# Altium schematic symbol library WR-MPC4.SchLib: 79 symbols (part 1 of 2)
Pins are listed as number, name and electrical type; pins without a type are passive.

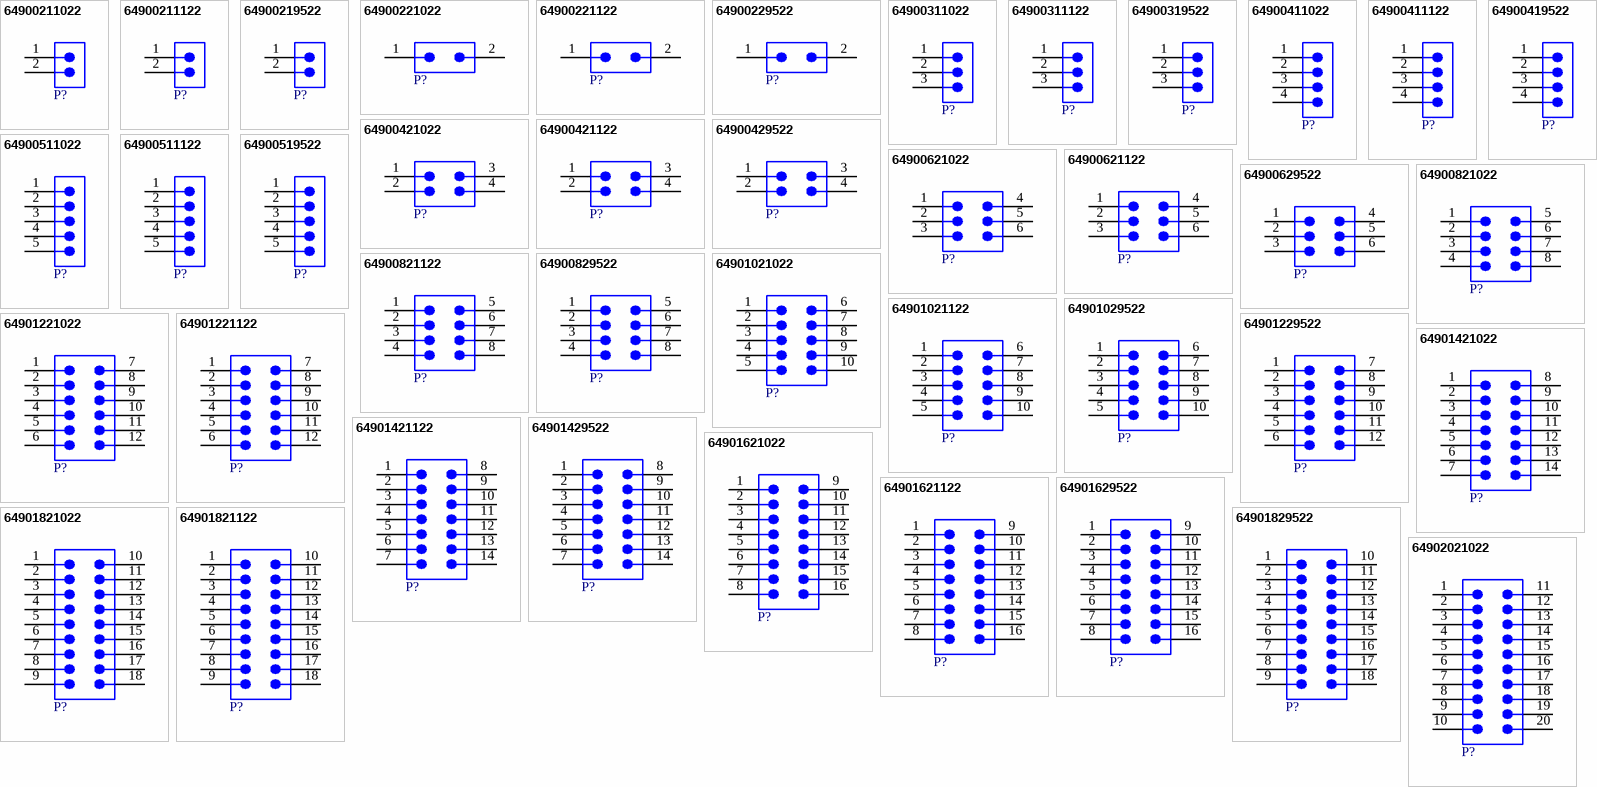
[diagram p0: symbols 64900211022 to 64902021022]

## 64900211022
designator P?  (value not drawn)
WR-MPC4 THT Male Right Angled Header with Mounting Flanges for Screw-in Retention, pitch 4.2mm, 2p; Manufacturer: Wurth Elektronik; Contact Resistance: 10mΩ; Insulation Resistance: 1000MΩ; Rated Current: 9A; Working Voltage: 600VAC; ComponentLink1Description: Website Link; ComponentLink1URL: https://www.we-online.com/redexpert/article/64900211022?ad; ComponentLink2Description: Datasheet Link; ComponentLink2URL: https://www.we-online.com/redexpert/spec/64900211022?ad; Manufacturer Part Number: 64900211022; Category: Wire-to-Board Connectors; Match Code: WR-MPC4; Mount: Through Hole; Operating Temperature Max: 105°C; Operating Temperature Min: -40°C; Packaging: Tray; Gender: Male; Number of Pins: 2; Number of Rows: 1; Orientation: Right Angled; Pitch: 4.2mm
footprint 64900211022
pins: 1, 2

## 64900211122
designator P?  (value not drawn)
WR-MPC4 THT Male Vertical Header, pitch 4.2mm, 2p; Manufacturer: Wurth Elektronik; Contact Resistance: 10mΩ; Insulation Resistance: 1000MΩ; Rated Current: 9A; Working Voltage: 600VAC; ComponentLink1Description: Website Link; ComponentLink1URL: https://www.we-online.com/redexpert/article/64900211122?ad; ComponentLink2Description: Datasheet Link; ComponentLink2URL: https://www.we-online.com/redexpert/spec/64900211122?ad; Manufacturer Part Number: 64900211122; Category: Wire-to-Board Connectors; Match Code: WR-MPC4; Mount: Through Hole; Operating Temperature Max: 105°C; Operating Temperature Min: -40°C; Packaging: Tray; Gender: Male; Number of Pins: 2; Number of Rows: 1; Orientation: Vertical; Pitch: 4.2mm
footprint 64900211122
pins: 1, 2

## 64900219522
designator P?  (value not drawn)
WR-MPC4 THT Male Right Angled Header, pitch 4.2mm, 2p; Manufacturer: Wurth Elektronik; Contact Resistance: 10mΩ; Insulation Resistance: 1000MΩ; Rated Current: 9A; Working Voltage: 600VAC; ComponentLink1Description: Website Link; ComponentLink1URL: https://www.we-online.com/redexpert/article/64900219522?ad; ComponentLink2Description: Datasheet Link; ComponentLink2URL: https://www.we-online.com/redexpert/spec/64900219522?ad; Manufacturer Part Number: 64900219522; Category: Wire-to-Board Connectors; Match Code: WR-MPC4; Mount: Through Hole; Operating Temperature Max: 105°C; Operating Temperature Min: -40°C; Packaging: Tray; Gender: Male; Number of Pins: 2; Number of Rows: 1; Orientation: Right Angled; Pitch: 4.2mm
footprint 64900219522
pins: 1, 2

## 64900221022
designator P?  (value not drawn)
WR-MPC4 THT Male Right Angled Header with Mounting Flanges for Screw-in Retention, pitch 4.2mm, 2p; Manufacturer: Wurth Elektronik; Contact Resistance: 10mΩ; Insulation Resistance: 1000MΩ; Rated Current: 9A; Working Voltage: 600VAC; ComponentLink1Description: Website Link; ComponentLink1URL: https://www.we-online.com/redexpert/article/64900221022?ad; ComponentLink2Description: Datasheet Link; ComponentLink2URL: https://www.we-online.com/redexpert/spec/64900221022?ad; Manufacturer Part Number: 64900221022; Category: Wire-to-Board Connectors; Match Code: WR-MPC4; Mount: Through Hole; Operating Temperature Max: 105°C; Operating Temperature Min: -40°C; Packaging: Tray; Gender: Male; Number of Pins: 2; Number of Rows: 2; Orientation: Right Angled; Pitch: 4.2mm
footprint 64900221022
pins: 1, 2

## 64900221122
designator P?  (value not drawn)
WR-MPC4 THT Male Vertical Header, pitch 4.2mm, 2p; Manufacturer: Wurth Elektronik; Contact Resistance: 10mΩ; Insulation Resistance: 1000MΩ; Rated Current: 9A; Working Voltage: 600VAC; ComponentLink1Description: Website Link; ComponentLink1URL: https://www.we-online.com/redexpert/article/64900221122?ad; ComponentLink2Description: Datasheet Link; ComponentLink2URL: https://www.we-online.com/redexpert/spec/64900221122?ad; Manufacturer Part Number: 64900221122; Category: Wire-to-Board Connectors; Match Code: WR-MPC4; Mount: Through Hole; Operating Temperature Max: 105°C; Operating Temperature Min: -40°C; Packaging: Tray; Gender: Male; Number of Pins: 2; Number of Rows: 2; Orientation: Vertical; Pitch: 4.2mm
footprint 64900221122
pins: 1, 2

## 64900229522
designator P?  (value not drawn)
WR-MPC4 THT Male Right Angled Header, pitch 4.2mm, 2p; Manufacturer: Wurth Elektronik; Contact Resistance: 10mΩ; Insulation Resistance: 1000MΩ; Rated Current: 9A; Working Voltage: 600VAC; ComponentLink1Description: Website Link; ComponentLink1URL: https://www.we-online.com/redexpert/article/64900229522?ad; ComponentLink2Description: Datasheet Link; ComponentLink2URL: https://www.we-online.com/redexpert/spec/64900229522?ad; Manufacturer Part Number: 64900229522; Category: Wire-to-Board Connectors; Match Code: WR-MPC4; Mount: Through Hole; Operating Temperature Max: 105°C; Operating Temperature Min: -40°C; Packaging: Tray; Gender: Male; Number of Pins: 2; Number of Rows: 2; Orientation: Right Angled; Pitch: 4.2mm
footprint 64900229522
pins: 1, 2

## 64900311022
designator P?  (value not drawn)
WR-MPC4 THT Male Right Angled Header with Mounting Flanges for Screw-in Retention, pitch 4.2mm, 3p; Manufacturer: Wurth Elektronik; Contact Resistance: 10mΩ; Insulation Resistance: 1000MΩ; Rated Current: 9A; Working Voltage: 600VAC; ComponentLink1Description: Website Link; ComponentLink1URL: https://www.we-online.com/redexpert/article/64900311022?ad; ComponentLink2Description: Datasheet Link; ComponentLink2URL: https://www.we-online.com/redexpert/spec/64900311022?ad; Manufacturer Part Number: 64900311022; Category: Wire-to-Board Connectors; Match Code: WR-MPC4; Mount: Through Hole; Operating Temperature Max: 105°C; Operating Temperature Min: -40°C; Packaging: Tray; Gender: Male; Number of Pins: 3; Number of Rows: 1; Orientation: Right Angled; Pitch: 4.2mm
footprint 64900311022
pins: 1, 2, 3

## 64900311122
designator P?  (value not drawn)
WR-MPC4 THT Male Vertical Header, pitch 4.2mm, 3p; Manufacturer: Wurth Elektronik; Contact Resistance: 10mΩ; Insulation Resistance: 1000MΩ; Rated Current: 9A; Working Voltage: 600VAC; ComponentLink1Description: Website Link; ComponentLink1URL: https://www.we-online.com/redexpert/article/64900311122?ad; ComponentLink2Description: Datasheet Link; ComponentLink2URL: https://www.we-online.com/redexpert/spec/64900311122?ad; Manufacturer Part Number: 64900311122; Category: Wire-to-Board Connectors; Match Code: WR-MPC4; Mount: Through Hole; Operating Temperature Max: 105°C; Operating Temperature Min: -40°C; Packaging: Tray; Gender: Male; Number of Pins: 3; Number of Rows: 1; Orientation: Vertical; Pitch: 4.2mm
footprint 64900311122
pins: 1, 2, 3

## 64900319522
designator P?  (value not drawn)
WR-MPC4 THT Male Right Angled Header, pitch 4.2mm, 3p; Manufacturer: Wurth Elektronik; Contact Resistance: 10mΩ; Insulation Resistance: 1000MΩ; Rated Current: 9A; Working Voltage: 600VAC; ComponentLink1Description: Website Link; ComponentLink1URL: https://www.we-online.com/redexpert/article/64900319522?ad; ComponentLink2Description: Datasheet Link; ComponentLink2URL: https://www.we-online.com/redexpert/spec/64900319522?ad; Manufacturer Part Number: 64900319522; Category: Wire-to-Board Connectors; Match Code: WR-MPC4; Mount: Through Hole; Operating Temperature Max: 105°C; Operating Temperature Min: -40°C; Packaging: Tray; Gender: Male; Number of Pins: 3; Number of Rows: 1; Orientation: Right Angled; Pitch: 4.2mm
footprint 64900319522
pins: 1, 2, 3

## 64900411022
designator P?  (value not drawn)
WR-MPC4 THT Male Right Angled Header with Mounting Flanges for Screw-in Retention, pitch 4.2mm, 4p; Manufacturer: Wurth Elektronik; Contact Resistance: 10mΩ; Insulation Resistance: 1000MΩ; Rated Current: 9A; Working Voltage: 600VAC; ComponentLink1Description: Website Link; ComponentLink1URL: https://www.we-online.com/redexpert/article/64900411022?ad; ComponentLink2Description: Datasheet Link; ComponentLink2URL: https://www.we-online.com/redexpert/spec/64900411022?ad; Manufacturer Part Number: 64900411022; Category: Wire-to-Board Connectors; Match Code: WR-MPC4; Mount: Through Hole; Operating Temperature Max: 105°C; Operating Temperature Min: -40°C; Packaging: Tray; Gender: Male; Number of Pins: 4; Number of Rows: 1; Orientation: Right Angled; Pitch: 4.2mm
footprint 64900411022
pins: 1, 2, 3, 4

## 64900411122
designator P?  (value not drawn)
WR-MPC4 THT Male Vertical Header, pitch 4.2mm, 4p; Manufacturer: Wurth Elektronik; Contact Resistance: 10mΩ; Insulation Resistance: 1000MΩ; Rated Current: 9A; Working Voltage: 600VAC; ComponentLink1Description: Website Link; ComponentLink1URL: https://www.we-online.com/redexpert/article/64900411122?ad; ComponentLink2Description: Datasheet Link; ComponentLink2URL: https://www.we-online.com/redexpert/spec/64900411122?ad; Manufacturer Part Number: 64900411122; Category: Wire-to-Board Connectors; Match Code: WR-MPC4; Mount: Through Hole; Operating Temperature Max: 105°C; Operating Temperature Min: -40°C; Packaging: Tray; Gender: Male; Number of Pins: 4; Number of Rows: 1; Orientation: Vertical; Pitch: 4.2mm
footprint 64900411122
pins: 1, 2, 3, 4

## 64900419522
designator P?  (value not drawn)
WR-MPC4 THT Male Right Angled Header, pitch 4.2mm, 4p; Manufacturer: Wurth Elektronik; Contact Resistance: 10mΩ; Insulation Resistance: 1000MΩ; Rated Current: 8A; Working Voltage: 600VAC; ComponentLink1Description: Website Link; ComponentLink1URL: https://www.we-online.com/redexpert/article/64900419522?ad; ComponentLink2Description: Datasheet Link; ComponentLink2URL: https://www.we-online.com/redexpert/spec/64900419522?ad; Manufacturer Part Number: 64900419522; Category: Wire-to-Board Connectors; Match Code: WR-MPC4; Mount: Through Hole; Operating Temperature Max: 105°C; Operating Temperature Min: -40°C; Packaging: Tray; Gender: Male; Number of Pins: 4; Number of Rows: 1; Orientation: Right Angled; Pitch: 4.2mm
footprint 64900419522
pins: 1, 2, 3, 4

## 64900421022
designator P?  (value not drawn)
WR-MPC4 THT Male Right Angled Header with Mounting Flanges for Screw-in Retention, pitch 4.2mm, 4p; Manufacturer: Wurth Elektronik; Contact Resistance: 10mΩ; Insulation Resistance: 1000MΩ; Rated Current: 8A; Working Voltage: 600VAC; ComponentLink1Description: Website Link; ComponentLink1URL: https://www.we-online.com/redexpert/article/64900421022?ad; ComponentLink2Description: Datasheet Link; ComponentLink2URL: https://www.we-online.com/redexpert/spec/64900421022?ad; Manufacturer Part Number: 64900421022; Category: Wire-to-Board Connectors; Match Code: WR-MPC4; Mount: Through Hole; Operating Temperature Max: 105°C; Operating Temperature Min: -40°C; Packaging: Tray; Gender: Male; Number of Pins: 4; Number of Rows: 2; Orientation: Right Angled; Pitch: 4.2mm
footprint 64900421022
pins: 1, 2, 3, 4

## 64900421122
designator P?  (value not drawn)
WR-MPC4 THT Male Vertical Header, pitch 4.2mm, 4p; Manufacturer: Wurth Elektronik; Contact Resistance: 10mΩ; Insulation Resistance: 1000MΩ; Rated Current: 8A; Working Voltage: 600VAC; ComponentLink1Description: Website Link; ComponentLink1URL: https://www.we-online.com/redexpert/article/64900421122?ad; ComponentLink2Description: Datasheet Link; ComponentLink2URL: https://www.we-online.com/redexpert/spec/64900421122?ad; Manufacturer Part Number: 64900421122; Category: Wire-to-Board Connectors; Match Code: WR-MPC4; Mount: Through Hole; Operating Temperature Max: 105°C; Operating Temperature Min: -40°C; Packaging: Tray; Gender: Male; Number of Pins: 4; Number of Rows: 2; Orientation: Vertical; Pitch: 4.2mm
footprint 64900421122
pins: 1, 2, 3, 4

## 64900429522
designator P?  (value not drawn)
WR-MPC4 THT Male Right Angled Header, pitch 4.2mm, 4p; Manufacturer: Wurth Elektronik; Contact Resistance: 10mΩ; Insulation Resistance: 1000MΩ; Rated Current: 8A; Working Voltage: 600VAC; ComponentLink1Description: Website Link; ComponentLink1URL: https://www.we-online.com/redexpert/article/64900429522?ad; ComponentLink2Description: Datasheet Link; ComponentLink2URL: https://www.we-online.com/redexpert/spec/64900429522?ad; Manufacturer Part Number: 64900429522; Category: Wire-to-Board Connectors; Match Code: WR-MPC4; Mount: Through Hole; Operating Temperature Max: 105°C; Operating Temperature Min: -40°C; Packaging: Tray; Gender: Male; Number of Pins: 4; Number of Rows: 2; Orientation: Right Angled; Pitch: 4.2mm
footprint 64900429522
pins: 1, 2, 3, 4

## 64900511022
designator P?  (value not drawn)
WR-MPC4 THT Male Right Angled Header with Mounting Flanges for Screw-in Retention, pitch 4.2mm, 5p; Manufacturer: Wurth Elektronik; Contact Resistance: 10mΩ; Insulation Resistance: 1000MΩ; Rated Current: 9A; Working Voltage: 600VAC; ComponentLink1Description: Website Link; ComponentLink1URL: https://www.we-online.com/redexpert/article/64900511022?ad; ComponentLink2Description: Datasheet Link; ComponentLink2URL: https://www.we-online.com/redexpert/spec/64900511022?ad; Manufacturer Part Number: 64900511022; Category: Wire-to-Board Connectors; Match Code: WR-MPC4; Mount: Through Hole; Operating Temperature Max: 105°C; Operating Temperature Min: -40°C; Packaging: Tray; Gender: Male; Number of Pins: 5; Number of Rows: 1; Orientation: Right Angled; Pitch: 4.2mm
footprint 64900511022
pins: 1, 2, 3, 4, 5

## 64900511122
designator P?  (value not drawn)
WR-MPC4 THT Male Vertical Header, pitch 4.2mm, 5p; Manufacturer: Wurth Elektronik; Contact Resistance: 10mΩ; Insulation Resistance: 1000MΩ; Rated Current: 9A; Working Voltage: 600VAC; ComponentLink1Description: Website Link; ComponentLink1URL: https://www.we-online.com/redexpert/article/64900511122?ad; ComponentLink2Description: Datasheet Link; ComponentLink2URL: https://www.we-online.com/redexpert/spec/64900511122?ad; Manufacturer Part Number: 64900511122; Category: Wire-to-Board Connectors; Match Code: WR-MPC4; Mount: Through Hole; Operating Temperature Max: 105°C; Operating Temperature Min: -40°C; Packaging: Tray; Gender: Male; Number of Pins: 5; Number of Rows: 1; Orientation: Vertical; Pitch: 4.2mm
footprint 64900511122
pins: 1, 2, 3, 4, 5

## 64900519522
designator P?  (value not drawn)
WR-MPC4 THT Male Right Angled Header, pitch 4.2mm, 5p; Manufacturer: Wurth Elektronik; Contact Resistance: 10mΩ; Insulation Resistance: 1000MΩ; Rated Current: 8A; Working Voltage: 600VAC; ComponentLink1Description: Website Link; ComponentLink1URL: https://www.we-online.com/redexpert/article/64900519522?ad; ComponentLink2Description: Datasheet Link; ComponentLink2URL: https://www.we-online.com/redexpert/spec/64900519522?ad; Manufacturer Part Number: 64900519522; Category: Wire-to-Board Connectors; Match Code: WR-MPC4; Mount: Through Hole; Operating Temperature Max: 105°C; Operating Temperature Min: -40°C; Packaging: Tray; Gender: Male; Number of Pins: 5; Number of Rows: 1; Orientation: Right Angled; Pitch: 4.2mm
footprint 64900519522
pins: 1, 2, 3, 4, 5

## 64900621022
designator P?  (value not drawn)
WR-MPC4 THT Male Right Angled Header with Mounting Flanges for Screw-in Retention, pitch 4.2mm, 6p; Manufacturer: Wurth Elektronik; Contact Resistance: 10mΩ; Insulation Resistance: 1000MΩ; Rated Current: 8A; Working Voltage: 600VAC; ComponentLink1Description: Website Link; ComponentLink1URL: https://www.we-online.com/redexpert/article/64900621022?ad; ComponentLink2Description: Datasheet Link; ComponentLink2URL: https://www.we-online.com/redexpert/spec/64900621022?ad; Manufacturer Part Number: 64900621022; Category: Wire-to-Board Connectors; Match Code: WR-MPC4; Mount: Through Hole; Operating Temperature Max: 105°C; Operating Temperature Min: -40°C; Packaging: Tray; Gender: Male; Number of Pins: 6; Number of Rows: 2; Orientation: Right Angled; Pitch: 4.2mm
footprint 64900621022
pins: 1, 2, 3, 4, 5, 6

## 64900621122
designator P?  (value not drawn)
WR-MPC4 THT Male Vertical Header, pitch 4.2mm, 6p; Manufacturer: Wurth Elektronik; Contact Resistance: 10mΩ; Insulation Resistance: 1000MΩ; Rated Current: 8A; Working Voltage: 600VAC; ComponentLink1Description: Website Link; ComponentLink1URL: https://www.we-online.com/redexpert/article/64900621122?ad; ComponentLink2Description: Datasheet Link; ComponentLink2URL: https://www.we-online.com/redexpert/spec/64900621122?ad; Manufacturer Part Number: 64900621122; Category: Wire-to-Board Connectors; Match Code: WR-MPC4; Mount: Through Hole; Operating Temperature Max: 105°C; Operating Temperature Min: -40°C; Packaging: Tray; Gender: Male; Number of Pins: 6; Number of Rows: 2; Orientation: Vertical; Pitch: 4.2mm
footprint 64900621122
pins: 1, 2, 3, 4, 5, 6

## 64900629522
designator P?  (value not drawn)
WR-MPC4 THT Male Right Angled Header, pitch 4.2mm, 6p; Manufacturer: Wurth Elektronik; Contact Resistance: 10mΩ; Insulation Resistance: 1000MΩ; Rated Current: 8A; Working Voltage: 600VAC; ComponentLink1Description: Website Link; ComponentLink1URL: https://www.we-online.com/redexpert/article/64900629522?ad; ComponentLink2Description: Datasheet Link; ComponentLink2URL: https://www.we-online.com/redexpert/spec/64900629522?ad; Manufacturer Part Number: 64900629522; Category: Wire-to-Board Connectors; Match Code: WR-MPC4; Mount: Through Hole; Operating Temperature Max: 105°C; Operating Temperature Min: -40°C; Packaging: Tray; Gender: Male; Number of Pins: 6; Number of Rows: 2; Orientation: Right Angled; Pitch: 4.2mm
footprint 64900629522
pins: 1, 2, 3, 4, 5, 6

## 64900821022
designator P?  (value not drawn)
WR-MPC4 THT Male Right Angled Header with Mounting Flanges for Screw-in Retention, pitch 4.2mm, 8p; Manufacturer: Wurth Elektronik; Contact Resistance: 10mΩ; Insulation Resistance: 1000MΩ; Rated Current: 7A; Working Voltage: 600VAC; ComponentLink1Description: Website Link; ComponentLink1URL: https://www.we-online.com/redexpert/article/64900821022?ad; ComponentLink2Description: Datasheet Link; ComponentLink2URL: https://www.we-online.com/redexpert/spec/64900821022?ad; Manufacturer Part Number: 64900821022; Category: Wire-to-Board Connectors; Match Code: WR-MPC4; Mount: Through Hole; Operating Temperature Max: 105°C; Operating Temperature Min: -40°C; Packaging: Tray; Gender: Male; Number of Pins: 8; Number of Rows: 2; Orientation: Right Angled; Pitch: 4.2mm
footprint 64900821022
pins: 1, 2, 3, 4, 5, 6, 7, 8

## 64900821122
designator P?  (value not drawn)
WR-MPC4 THT Male Vertical Header, pitch 4.2mm, 8p; Manufacturer: Wurth Elektronik; Contact Resistance: 10mΩ; Insulation Resistance: 1000MΩ; Rated Current: 7A; Working Voltage: 600VAC; ComponentLink1Description: Website Link; ComponentLink1URL: https://www.we-online.com/redexpert/article/64900821122?ad; ComponentLink2Description: Datasheet Link; ComponentLink2URL: https://www.we-online.com/redexpert/spec/64900821122?ad; Manufacturer Part Number: 64900821122; Category: Wire-to-Board Connectors; Match Code: WR-MPC4; Mount: Through Hole; Operating Temperature Max: 105°C; Operating Temperature Min: -40°C; Packaging: Tray; Gender: Male; Number of Pins: 8; Number of Rows: 2; Orientation: Vertical; Pitch: 4.2mm
footprint 64900821122
pins: 1, 2, 3, 4, 5, 6, 7, 8

## 64900829522
designator P?  (value not drawn)
WR-MPC4 THT Male Right Angled Header, pitch 4.2mm, 8p; Manufacturer: Wurth Elektronik; Contact Resistance: 10mΩ; Insulation Resistance: 1000MΩ; Rated Current: 7A; Working Voltage: 600VAC; ComponentLink1Description: Website Link; ComponentLink1URL: https://www.we-online.com/redexpert/article/64900829522?ad; ComponentLink2Description: Datasheet Link; ComponentLink2URL: https://www.we-online.com/redexpert/spec/64900829522?ad; Manufacturer Part Number: 64900829522; Category: Wire-to-Board Connectors; Match Code: WR-MPC4; Mount: Through Hole; Operating Temperature Max: 105°C; Operating Temperature Min: -40°C; Packaging: Tray; Gender: Male; Number of Pins: 8; Number of Rows: 2; Orientation: Right Angled; Pitch: 4.2mm
footprint 64900829522
pins: 1, 2, 3, 4, 5, 6, 7, 8

## 64901021022
designator P?  (value not drawn)
WR-MPC4 THT Male Right Angled Header with Mounting Flanges for Screw-in Retention, pitch 4.2mm, 10p; Manufacturer: Wurth Elektronik; Contact Resistance: 10mΩ; Insulation Resistance: 1000MΩ; Rated Current: 7A; Working Voltage: 600VAC; ComponentLink1Description: Website Link; ComponentLink1URL: https://www.we-online.com/redexpert/article/64901021022?ad; ComponentLink2Description: Datasheet Link; ComponentLink2URL: https://www.we-online.com/redexpert/spec/64901021022?ad; Manufacturer Part Number: 64901021022; Category: Wire-to-Board Connectors; Match Code: WR-MPC4; Mount: Through Hole; Operating Temperature Max: 105°C; Operating Temperature Min: -40°C; Packaging: Tray; Gender: Male; Number of Pins: 10; Number of Rows: 2; Orientation: Right Angled; Pitch: 4.2mm
footprint 64901021022
pins: 1, 2, 3, 4, 5, 6, 7, 8, 9, 10

## 64901021122
designator P?  (value not drawn)
WR-MPC4 THT Male Vertical Header, pitch 4.2mm, 10p; Manufacturer: Wurth Elektronik; Contact Resistance: 10mΩ; Insulation Resistance: 1000MΩ; Rated Current: 7A; Working Voltage: 600VAC; ComponentLink1Description: Website Link; ComponentLink1URL: https://www.we-online.com/redexpert/article/64901021122?ad; ComponentLink2Description: Datasheet Link; ComponentLink2URL: https://www.we-online.com/redexpert/spec/64901021122?ad; Manufacturer Part Number: 64901021122; Category: Wire-to-Board Connectors; Match Code: WR-MPC4; Mount: Through Hole; Operating Temperature Max: 105°C; Operating Temperature Min: -40°C; Packaging: Tray; Gender: Male; Number of Pins: 10; Number of Rows: 2; Orientation: Vertical; Pitch: 4.2mm
footprint 64901021122
pins: 1, 2, 3, 4, 5, 6, 7, 8, 9, 10

## 64901029522
designator P?  (value not drawn)
WR-MPC4 THT Male Right Angled Header, pitch 4.2mm, 10p; Manufacturer: Wurth Elektronik; Contact Resistance: 10mΩ; Insulation Resistance: 1000MΩ; Rated Current: 7A; Working Voltage: 600VAC; ComponentLink1Description: Website Link; ComponentLink1URL: https://www.we-online.com/redexpert/article/64901029522?ad; ComponentLink2Description: Datasheet Link; ComponentLink2URL: https://www.we-online.com/redexpert/spec/64901029522?ad; Manufacturer Part Number: 64901029522; Category: Wire-to-Board Connectors; Match Code: WR-MPC4; Mount: Through Hole; Operating Temperature Max: 105°C; Operating Temperature Min: -40°C; Packaging: Tray; Gender: Male; Number of Pins: 10; Number of Rows: 2; Orientation: Right Angled; Pitch: 4.2mm
footprint 64901029522
pins: 1, 2, 3, 4, 5, 6, 7, 8, 9, 10

## 64901221022
designator P?  (value not drawn)
WR-MPC4 THT Male Right Angled Header with Mounting Flanges for Screw-in Retention, pitch 4.2mm, 12p; Manufacturer: Wurth Elektronik; Contact Resistance: 10mΩ; Insulation Resistance: 1000MΩ; Rated Current: 6A; Working Voltage: 600VAC; ComponentLink1Description: Website Link; ComponentLink1URL: https://www.we-online.com/redexpert/article/64901221022?ad; ComponentLink2Description: Datasheet Link; ComponentLink2URL: https://www.we-online.com/redexpert/spec/64901221022?ad; Manufacturer Part Number: 64901221022; Category: Wire-to-Board Connectors; Match Code: WR-MPC4; Mount: Through Hole; Operating Temperature Max: 105°C; Operating Temperature Min: -40°C; Packaging: Tray; Gender: Male; Number of Pins: 12; Number of Rows: 2; Orientation: Right Angled; Pitch: 4.2mm
footprint 64901221022
pins: 1, 2, 3, 4, 5, 6, 7, 8, 9, 10, 11, 12

## 64901221122
designator P?  (value not drawn)
WR-MPC4 THT Male Vertical Header, pitch 4.2mm, 12p; Manufacturer: Wurth Elektronik; Contact Resistance: 10mΩ; Insulation Resistance: 1000MΩ; Rated Current: 6A; Working Voltage: 600VAC; ComponentLink1Description: Website Link; ComponentLink1URL: https://www.we-online.com/redexpert/article/64901221122?ad; ComponentLink2Description: Datasheet Link; ComponentLink2URL: https://www.we-online.com/redexpert/spec/64901221122?ad; Manufacturer Part Number: 64901221122; Category: Wire-to-Board Connectors; Match Code: WR-MPC4; Mount: Through Hole; Operating Temperature Max: 105°C; Operating Temperature Min: -40°C; Packaging: Tray; Gender: Male; Number of Pins: 12; Number of Rows: 2; Orientation: Vertical; Pitch: 4.2mm
footprint 64901221122
pins: 1, 2, 3, 4, 5, 6, 7, 8, 9, 10, 11, 12

## 64901229522
designator P?  (value not drawn)
WR-MPC4 THT Male Right Angled Header, pitch 4.2mm, 12p; Manufacturer: Wurth Elektronik; Contact Resistance: 10mΩ; Insulation Resistance: 1000MΩ; Rated Current: 7A; Working Voltage: 600VAC; ComponentLink1Description: Website Link; ComponentLink1URL: https://www.we-online.com/redexpert/article/64901229522?ad; ComponentLink2Description: Datasheet Link; ComponentLink2URL: https://www.we-online.com/redexpert/spec/64901229522?ad; Manufacturer Part Number: 64901229522; Category: Wire-to-Board Connectors; Match Code: WR-MPC4; Mount: Through Hole; Operating Temperature Max: 105°C; Operating Temperature Min: -40°C; Packaging: Tray; Gender: Male; Number of Pins: 12; Number of Rows: 2; Orientation: Right Angled; Pitch: 4.2mm
footprint 64901229522
pins: 1, 2, 3, 4, 5, 6, 7, 8, 9, 10, 11, 12

## 64901421022
designator P?  (value not drawn)
WR-MPC4 THT Male Right Angled Header with Mounting Flanges for Screw-in Retention, pitch 4.2mm, 14p; Manufacturer: Wurth Elektronik; Contact Resistance: 10mΩ; Insulation Resistance: 1000MΩ; Rated Current: 6A; Working Voltage: 600VAC; ComponentLink1Description: Website Link; ComponentLink1URL: https://www.we-online.com/redexpert/article/64901421022?ad; ComponentLink2Description: Datasheet Link; ComponentLink2URL: https://www.we-online.com/redexpert/spec/64901421022?ad; Manufacturer Part Number: 64901421022; Category: Wire-to-Board Connectors; Match Code: WR-MPC4; Mount: Through Hole; Operating Temperature Max: 105°C; Operating Temperature Min: -40°C; Packaging: Tray; Gender: Male; Number of Pins: 14; Number of Rows: 2; Orientation: Right Angled; Pitch: 4.2mm
footprint 64901421022
pins: 1, 2, 3, 4, 5, 6, 7, 8, 9, 10, 11, 12, 13, 14

## 64901421122
designator P?  (value not drawn)
WR-MPC4 THT Male Vertical Header, pitch 4.2mm, 14p; Manufacturer: Wurth Elektronik; Contact Resistance: 10mΩ; Insulation Resistance: 1000MΩ; Rated Current: 6A; Working Voltage: 600VAC; ComponentLink1Description: Website Link; ComponentLink1URL: https://www.we-online.com/redexpert/article/64901421122?ad; ComponentLink2Description: Datasheet Link; ComponentLink2URL: https://www.we-online.com/redexpert/spec/64901421122?ad; Manufacturer Part Number: 64901421122; Category: Wire-to-Board Connectors; Match Code: WR-MPC4; Mount: Through Hole; Operating Temperature Max: 105°C; Operating Temperature Min: -40°C; Packaging: Tray; Gender: Male; Number of Pins: 14; Number of Rows: 2; Orientation: Vertical; Pitch: 4.2mm
footprint 64901421122
pins: 1, 2, 3, 4, 5, 6, 7, 8, 9, 10, 11, 12, 13, 14

## 64901429522
designator P?  (value not drawn)
WR-MPC4 THT Male Right Angled Header, pitch 4.2mm, 14p; Manufacturer: Wurth Elektronik; Contact Resistance: 10mΩ; Insulation Resistance: 1000MΩ; Rated Current: 7A; Working Voltage: 600VAC; ComponentLink1Description: Website Link; ComponentLink1URL: https://www.we-online.com/redexpert/article/64901429522?ad; ComponentLink2Description: Datasheet Link; ComponentLink2URL: https://www.we-online.com/redexpert/spec/64901429522?ad; Manufacturer Part Number: 64901429522; Category: Wire-to-Board Connectors; Match Code: WR-MPC4; Mount: Through Hole; Operating Temperature Max: 105°C; Operating Temperature Min: -40°C; Packaging: Tray; Gender: Male; Number of Pins: 14; Number of Rows: 2; Orientation: Right Angled; Pitch: 4.2mm
footprint 64901429522
pins: 1, 2, 3, 4, 5, 6, 7, 8, 9, 10, 11, 12, 13, 14

## 64901621022
designator P?  (value not drawn)
WR-MPC4 THT Male Right Angled Header with Mounting Flanges for Screw-in Retention, pitch 4.2mm, 16p; Manufacturer: Wurth Elektronik; Contact Resistance: 10mΩ; Insulation Resistance: 1000MΩ; Rated Current: 6A; Working Voltage: 600VAC; ComponentLink1Description: Website Link; ComponentLink1URL: https://www.we-online.com/redexpert/article/64901621022?ad; ComponentLink2Description: Datasheet Link; ComponentLink2URL: https://www.we-online.com/redexpert/spec/64901621022?ad; Manufacturer Part Number: 64901621022; Category: Wire-to-Board Connectors; Match Code: WR-MPC4; Mount: Through Hole; Operating Temperature Max: 105°C; Operating Temperature Min: -40°C; Packaging: Tray; Gender: Male; Number of Pins: 16; Number of Rows: 2; Orientation: Right Angled; Pitch: 4.2mm
footprint 64901621022
pins: 1, 2, 3, 4, 5, 6, 7, 8, 9, 10, 11, 12, 13, 14, 15, 16

## 64901621122
designator P?  (value not drawn)
WR-MPC4 THT Male Vertical Header, pitch 4.2mm, 16p; Manufacturer: Wurth Elektronik; Contact Resistance: 10mΩ; Insulation Resistance: 1000MΩ; Rated Current: 6A; Working Voltage: 600VAC; ComponentLink1Description: Website Link; ComponentLink1URL: https://www.we-online.com/redexpert/article/64901621122?ad; ComponentLink2Description: Datasheet Link; ComponentLink2URL: https://www.we-online.com/redexpert/spec/64901621122?ad; Manufacturer Part Number: 64901621122; Category: Wire-to-Board Connectors; Match Code: WR-MPC4; Mount: Through Hole; Operating Temperature Max: 105°C; Operating Temperature Min: -40°C; Packaging: Tray; Gender: Male; Number of Pins: 16; Number of Rows: 2; Orientation: Vertical; Pitch: 4.2mm
footprint 64901621122
pins: 1, 2, 3, 4, 5, 6, 7, 8, 9, 10, 11, 12, 13, 14, 15, 16

## 64901629522
designator P?  (value not drawn)
WR-MPC4 THT Male Right Angled Header, pitch 4.2mm, 16p; Manufacturer: Wurth Elektronik; Contact Resistance: 10mΩ; Insulation Resistance: 1000MΩ; Rated Current: 7A; Working Voltage: 600VAC; ComponentLink1Description: Website Link; ComponentLink1URL: https://www.we-online.com/redexpert/article/64901629522?ad; ComponentLink2Description: Datasheet Link; ComponentLink2URL: https://www.we-online.com/redexpert/spec/64901629522?ad; Manufacturer Part Number: 64901629522; Category: Wire-to-Board Connectors; Match Code: WR-MPC4; Mount: Through Hole; Operating Temperature Max: 105°C; Operating Temperature Min: -40°C; Packaging: Tray; Gender: Male; Number of Pins: 16; Number of Rows: 2; Orientation: Right Angled; Pitch: 4.2mm
footprint 64901629522
pins: 1, 2, 3, 4, 5, 6, 7, 8, 9, 10, 11, 12, 13, 14, 15, 16

## 64901821022
designator P?  (value not drawn)
WR-MPC4 THT Male Right Angled Header with Mounting Flanges for Screw-in Retention, pitch 4.2mm, 18p; Manufacturer: Wurth Elektronik; Contact Resistance: 10mΩ; Insulation Resistance: 1000MΩ; Rated Current: 6A; Working Voltage: 600VAC; ComponentLink1Description: Website Link; ComponentLink1URL: https://www.we-online.com/redexpert/article/64901821022?ad; ComponentLink2Description: Datasheet Link; ComponentLink2URL: https://www.we-online.com/redexpert/spec/64901821022?ad; Manufacturer Part Number: 64901821022; Category: Wire-to-Board Connectors; Match Code: WR-MPC4; Mount: Through Hole; Operating Temperature Max: 105°C; Operating Temperature Min: -40°C; Packaging: Tray; Gender: Male; Number of Pins: 18; Number of Rows: 2; Orientation: Right Angled; Pitch: 4.2mm
footprint 64901821022
pins: 1, 2, 3, 4, 5, 6, 7, 8, 9, 10, 11, 12, 13, 14, 15, 16, 17, 18

## 64901821122
designator P?  (value not drawn)
WR-MPC4 THT Male Vertical Header, pitch 4.2mm, 18p; Manufacturer: Wurth Elektronik; Contact Resistance: 10mΩ; Insulation Resistance: 1000MΩ; Rated Current: 6A; Working Voltage: 600VAC; ComponentLink1Description: Website Link; ComponentLink1URL: https://www.we-online.com/redexpert/article/64901821122?ad; ComponentLink2Description: Datasheet Link; ComponentLink2URL: https://www.we-online.com/redexpert/spec/64901821122?ad; Manufacturer Part Number: 64901821122; Category: Wire-to-Board Connectors; Match Code: WR-MPC4; Mount: Through Hole; Operating Temperature Max: 105°C; Operating Temperature Min: -40°C; Packaging: Tray; Gender: Male; Number of Pins: 18; Number of Rows: 2; Orientation: Vertical; Pitch: 4.2mm
footprint 64901821122
pins: 1, 2, 3, 4, 5, 6, 7, 8, 9, 10, 11, 12, 13, 14, 15, 16, 17, 18

## 64901829522
designator P?  (value not drawn)
WR-MPC4 THT Male Right Angled Header, pitch 4.2mm, 18p; Manufacturer: Wurth Elektronik; Contact Resistance: 10mΩ; Insulation Resistance: 1000MΩ; Rated Current: 7A; Working Voltage: 600VAC; ComponentLink1Description: Website Link; ComponentLink1URL: https://www.we-online.com/redexpert/article/64901829522?ad; ComponentLink2Description: Datasheet Link; ComponentLink2URL: https://www.we-online.com/redexpert/spec/64901829522?ad; Manufacturer Part Number: 64901829522; Category: Wire-to-Board Connectors; Match Code: WR-MPC4; Mount: Through Hole; Operating Temperature Max: 105°C; Operating Temperature Min: -40°C; Packaging: Tray; Gender: Male; Number of Pins: 18; Number of Rows: 2; Orientation: Right Angled; Pitch: 4.2mm
footprint 64901829522
pins: 1, 2, 3, 4, 5, 6, 7, 8, 9, 10, 11, 12, 13, 14, 15, 16, 17, 18

## 64902021022
designator P?  (value not drawn)
WR-MPC4 THT Male Right Angled Header with Mounting Flanges for Screw-in Retention, pitch 4.2mm, 20p; Manufacturer: Wurth Elektronik; Contact Resistance: 10mΩ; Insulation Resistance: 1000MΩ; Rated Current: 6A; Working Voltage: 600VAC; ComponentLink1Description: Website Link; ComponentLink1URL: https://www.we-online.com/redexpert/article/64902021022?ad; ComponentLink2Description: Datasheet Link; ComponentLink2URL: https://www.we-online.com/redexpert/spec/64902021022?ad; Manufacturer Part Number: 64902021022; Category: Wire-to-Board Connectors; Match Code: WR-MPC4; Mount: Through Hole; Operating Temperature Max: 105°C; Operating Temperature Min: -40°C; Packaging: Tray; Gender: Male; Number of Pins: 20; Number of Rows: 2; Orientation: Right Angled; Pitch: 4.2mm
footprint 64902021022
pins: 1, 2, 3, 4, 5, 6, 7, 8, 9, 10, 11, 12, 13, 14, 15, 16, 17, 18, 19, 20

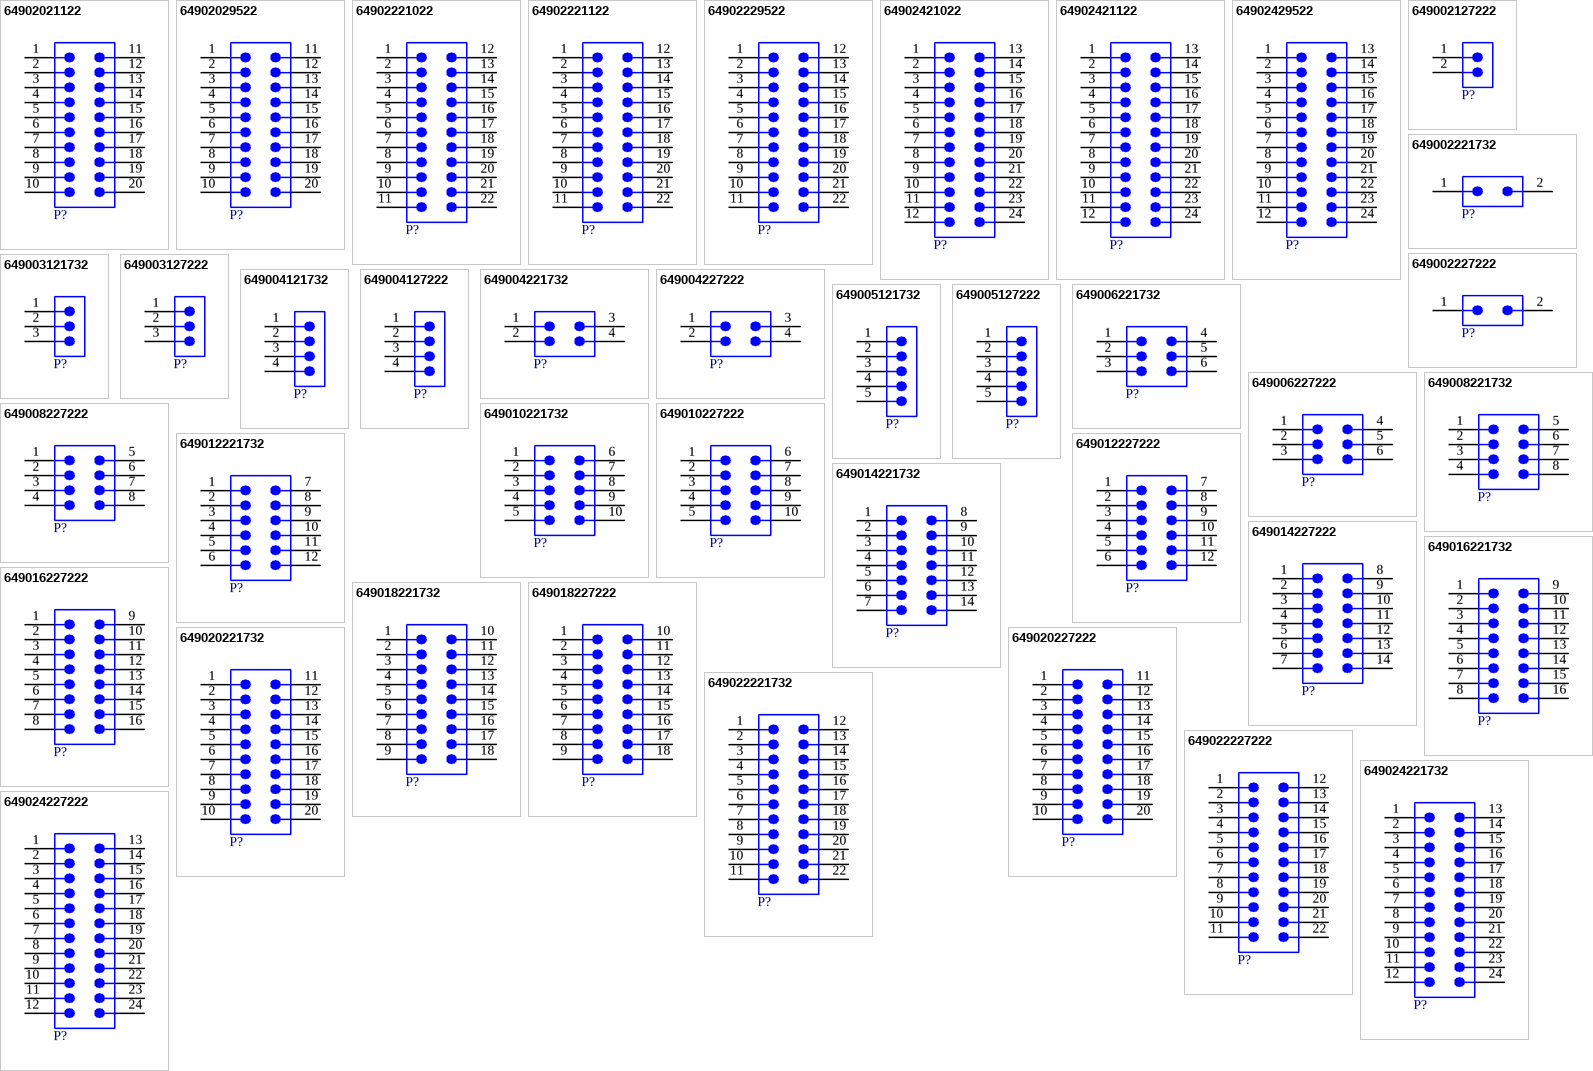
[diagram p1: symbols 64902021122 to 649024227222]

## 64902021122
designator P?  (value not drawn)
WR-MPC4 THT Male Vertical Header, pitch 4.2mm, 20p; Manufacturer: Wurth Elektronik; Contact Resistance: 10mΩ; Insulation Resistance: 1000MΩ; Rated Current: 6A; Working Voltage: 600VAC; ComponentLink1Description: Website Link; ComponentLink1URL: https://www.we-online.com/redexpert/article/64902021122?ad; ComponentLink2Description: Datasheet Link; ComponentLink2URL: https://www.we-online.com/redexpert/spec/64902021122?ad; Manufacturer Part Number: 64902021122; Category: Wire-to-Board Connectors; Match Code: WR-MPC4; Mount: Through Hole; Operating Temperature Max: 105°C; Operating Temperature Min: -40°C; Packaging: Tray; Gender: Male; Number of Pins: 20; Number of Rows: 2; Orientation: Vertical; Pitch: 4.2mm
footprint 64902021122
pins: 1, 2, 3, 4, 5, 6, 7, 8, 9, 10, 11, 12, 13, 14, 15, 16, 17, 18, 19, 20

## 64902029522
designator P?  (value not drawn)
WR-MPC4 THT Male Right Angled Header, pitch 4.2mm, 20p; Manufacturer: Wurth Elektronik; Contact Resistance: 10mΩ; Insulation Resistance: 1000MΩ; Rated Current: 7A; Working Voltage: 600VAC; ComponentLink1Description: Website Link; ComponentLink1URL: https://www.we-online.com/redexpert/article/64902029522?ad; ComponentLink2Description: Datasheet Link; ComponentLink2URL: https://www.we-online.com/redexpert/spec/64902029522?ad; Manufacturer Part Number: 64902029522; Category: Wire-to-Board Connectors; Match Code: WR-MPC4; Mount: Through Hole; Operating Temperature Max: 105°C; Operating Temperature Min: -40°C; Packaging: Tray; Gender: Male; Number of Pins: 20; Number of Rows: 2; Orientation: Right Angled; Pitch: 4.2mm
footprint 64902029522
pins: 1, 2, 3, 4, 5, 6, 7, 8, 9, 10, 11, 12, 13, 14, 15, 16, 17, 18, 19, 20

## 64902221022
designator P?  (value not drawn)
WR-MPC4 THT Male Right Angled Header with Mounting Flanges for Screw-in Retention, pitch 4.2mm, 22p; Manufacturer: Wurth Elektronik; Contact Resistance: 10mΩ; Insulation Resistance: 1000MΩ; Rated Current: 6A; Working Voltage: 600VAC; ComponentLink1Description: Website Link; ComponentLink1URL: https://www.we-online.com/redexpert/article/64902221022?ad; ComponentLink2Description: Datasheet Link; ComponentLink2URL: https://www.we-online.com/redexpert/spec/64902221022?ad; Manufacturer Part Number: 64902221022; Category: Wire-to-Board Connectors; Match Code: WR-MPC4; Mount: Through Hole; Operating Temperature Max: 105°C; Operating Temperature Min: -40°C; Packaging: Tray; Gender: Male; Number of Pins: 22; Number of Rows: 2; Orientation: Right Angled; Pitch: 4.2mm
footprint 64902221022
pins: 1, 2, 3, 4, 5, 6, 7, 8, 9, 10, 11, 12, 13, 14, 15, 16, 17, 18, 19, 20, 21, 22

## 64902221122
designator P?  (value not drawn)
WR-MPC4 THT Male Vertical Header, pitch 4.2mm, 22p; Manufacturer: Wurth Elektronik; Contact Resistance: 10mΩ; Insulation Resistance: 1000MΩ; Rated Current: 6A; Working Voltage: 600VAC; ComponentLink1Description: Website Link; ComponentLink1URL: https://www.we-online.com/redexpert/article/64902221122?ad; ComponentLink2Description: Datasheet Link; ComponentLink2URL: https://www.we-online.com/redexpert/spec/64902221122?ad; Manufacturer Part Number: 64902221122; Category: Wire-to-Board Connectors; Match Code: WR-MPC4; Mount: Through Hole; Operating Temperature Max: 105°C; Operating Temperature Min: -40°C; Packaging: Tray; Gender: Male; Number of Pins: 22; Number of Rows: 2; Orientation: Vertical; Pitch: 4.2mm
footprint 64902221122
pins: 1, 2, 3, 4, 5, 6, 7, 8, 9, 10, 11, 12, 13, 14, 15, 16, 17, 18, 19, 20, 21, 22

## 64902229522
designator P?  (value not drawn)
WR-MPC4 THT Male Right Angled Header, pitch 4.2mm, 22p; Manufacturer: Wurth Elektronik; Contact Resistance: 10mΩ; Insulation Resistance: 1000MΩ; Rated Current: 7A; Working Voltage: 600VAC; ComponentLink1Description: Website Link; ComponentLink1URL: https://www.we-online.com/redexpert/article/64902229522?ad; ComponentLink2Description: Datasheet Link; ComponentLink2URL: https://www.we-online.com/redexpert/spec/64902229522?ad; Manufacturer Part Number: 64902229522; Category: Wire-to-Board Connectors; Match Code: WR-MPC4; Mount: Through Hole; Operating Temperature Max: 105°C; Operating Temperature Min: -40°C; Packaging: Tray; Gender: Male; Number of Pins: 22; Number of Rows: 2; Orientation: Right Angled; Pitch: 4.2mm
footprint 64902229522
pins: 1, 2, 3, 4, 5, 6, 7, 8, 9, 10, 11, 12, 13, 14, 15, 16, 17, 18, 19, 20, 21, 22

## 64902421022
designator P?  (value not drawn)
WR-MPC4 THT Male Right Angled Header with Mounting Flanges for Screw-in Retention, pitch 4.2mm, 24p; Manufacturer: Wurth Elektronik; Contact Resistance: 10mΩ; Insulation Resistance: 1000MΩ; Rated Current: 6A; Working Voltage: 600VAC; ComponentLink1Description: Website Link; ComponentLink1URL: https://www.we-online.com/redexpert/article/64902421022?ad; ComponentLink2Description: Datasheet Link; ComponentLink2URL: https://www.we-online.com/redexpert/spec/64902421022?ad; Manufacturer Part Number: 64902421022; Category: Wire-to-Board Connectors; Match Code: WR-MPC4; Mount: Through Hole; Operating Temperature Max: 105°C; Operating Temperature Min: -40°C; Packaging: Tray; Gender: Male; Number of Pins: 24; Number of Rows: 2; Orientation: Right Angled; Pitch: 4.2mm
footprint 64902421022
pins: 1, 2, 3, 4, 5, 6, 7, 8, 9, 10, 11, 12, 13, 14, 15, 16, 17, 18, 19, 20, 21, 22, 23, 24

## 64902421122
designator P?  (value not drawn)
WR-MPC4 THT Male Vertical Header, pitch 4.2mm, 24p; Manufacturer: Wurth Elektronik; Contact Resistance: 10mΩ; Insulation Resistance: 1000MΩ; Rated Current: 6A; Working Voltage: 600VAC; ComponentLink1Description: Website Link; ComponentLink1URL: https://www.we-online.com/redexpert/article/64902421122?ad; ComponentLink2Description: Datasheet Link; ComponentLink2URL: https://www.we-online.com/redexpert/spec/64902421122?ad; Manufacturer Part Number: 64902421122; Category: Wire-to-Board Connectors; Match Code: WR-MPC4; Mount: Through Hole; Operating Temperature Max: 105°C; Operating Temperature Min: -40°C; Packaging: Tray; Gender: Male; Number of Pins: 24; Number of Rows: 2; Orientation: Vertical; Pitch: 4.2mm
footprint 64902421122
pins: 1, 2, 3, 4, 5, 6, 7, 8, 9, 10, 11, 12, 13, 14, 15, 16, 17, 18, 19, 20, 21, 22, 23, 24

## 64902429522
designator P?  (value not drawn)
WR-MPC4 THT Male Right Angled Header, pitch 4.2mm, 24p; Manufacturer: Wurth Elektronik; Contact Resistance: 10mΩ; Insulation Resistance: 1000MΩ; Rated Current: 7A; Working Voltage: 600VAC; ComponentLink1Description: Website Link; ComponentLink1URL: https://www.we-online.com/redexpert/article/64902429522?ad; ComponentLink2Description: Datasheet Link; ComponentLink2URL: https://www.we-online.com/redexpert/spec/64902429522?ad; Manufacturer Part Number: 64902429522; Category: Wire-to-Board Connectors; Match Code: WR-MPC4; Mount: Through Hole; Operating Temperature Max: 105°C; Operating Temperature Min: -40°C; Packaging: Tray; Gender: Male; Number of Pins: 24; Number of Rows: 2; Orientation: Right Angled; Pitch: 4.2mm
footprint 64902429522
pins: 1, 2, 3, 4, 5, 6, 7, 8, 9, 10, 11, 12, 13, 14, 15, 16, 17, 18, 19, 20, 21, 22, 23, 24

## 649002127222
designator P?  (value not drawn)
WR-MPC4 THT Male Right Angled Header with Mounting Pegs, pitch 4.2mm, 2p; Manufacturer: Wurth Elektronik; Contact Resistance: 10mΩ; Insulation Resistance: 1000MΩ; Rated Current: 9A; Working Voltage: 600VAC; ComponentLink1Description: Website Link; ComponentLink1URL: https://www.we-online.com/redexpert/article/649002127222?ad; ComponentLink2Description: Datasheet Link; ComponentLink2URL: https://www.we-online.com/redexpert/spec/649002127222?ad; Manufacturer Part Number: 649002127222; Category: Wire-to-Board Connectors; Match Code: WR-MPC4; Mount: Through Hole; Operating Temperature Max: 105°C; Operating Temperature Min: -40°C; Packaging: Tray; Gender: Male; Number of Pins: 2; Number of Rows: 1; Orientation: Right Angled; Pitch: 4.2mm
footprint 649002127222
pins: 1, 2

## 649002221732
designator P?  (value not drawn)
WR-MPC4 THT Male Vertical Header with Mounting Pegs, pitch 4.2mm, 2p; Manufacturer: Wurth Elektronik; Contact Resistance: 10mΩ; Insulation Resistance: 1000MΩ; Rated Current: 9A; Working Voltage: 600VAC; ComponentLink1Description: Website Link; ComponentLink1URL: https://www.we-online.com/redexpert/article/649002221732?ad; ComponentLink2Description: Datasheet Link; ComponentLink2URL: https://www.we-online.com/redexpert/spec/649002221732?ad; Manufacturer Part Number: 649002221732; Category: Wire-to-Board Connectors; Match Code: WR-MPC4; Mount: Through Hole; Operating Temperature Max: 105°C; Operating Temperature Min: -40°C; Packaging: Tray; Gender: Male; Number of Pins: 2; Number of Rows: 2; Orientation: Vertical; Pitch: 4.2mm
footprint 649002221732
pins: 1, 2

## 649002227222
designator P?  (value not drawn)
WR-MPC4 THT Male Right Angled Header with Mounting Pegs, pitch 4.2mm, 2p; Manufacturer: Wurth Elektronik; Contact Resistance: 10mΩ; Insulation Resistance: 1000MΩ; Rated Current: 9A; Working Voltage: 600VAC; ComponentLink1Description: Website Link; ComponentLink1URL: https://www.we-online.com/redexpert/article/649002227222?ad; ComponentLink2Description: Datasheet Link; ComponentLink2URL: https://www.we-online.com/redexpert/spec/649002227222?ad; Manufacturer Part Number: 649002227222; Category: Wire-to-Board Connectors; Match Code: WR-MPC4; Mount: Through Hole; Operating Temperature Max: 105°C; Operating Temperature Min: -40°C; Packaging: Tray; Gender: Male; Number of Pins: 2; Number of Rows: 2; Orientation: Right Angled; Pitch: 4.2mm
footprint 649002227222
pins: 1, 2

## 649003121732
designator P?  (value not drawn)
WR-MPC4 THT Male Vertical Header with Mounting Pegs, pitch 4.2mm, 3p; Manufacturer: Wurth Elektronik; Contact Resistance: 10mΩ; Insulation Resistance: 1000MΩ; Rated Current: 9A; Working Voltage: 600VAC; ComponentLink1Description: Website Link; ComponentLink1URL: https://www.we-online.com/redexpert/article/649003121732?ad; ComponentLink2Description: Datasheet Link; ComponentLink2URL: https://www.we-online.com/redexpert/spec/649003121732?ad; Manufacturer Part Number: 649003121732; Category: Wire-to-Board Connectors; Match Code: WR-MPC4; Mount: Through Hole; Operating Temperature Max: 105°C; Operating Temperature Min: -40°C; Packaging: Tray; Gender: Male; Number of Pins: 3; Number of Rows: 1; Orientation: Vertical; Pitch: 4.2mm
footprint 649003121732
pins: 1, 2, 3

## 649003127222
designator P?  (value not drawn)
WR-MPC4 THT Male Right Angled Header with Mounting Pegs, pitch 4.2mm, 3p; Manufacturer: Wurth Elektronik; Contact Resistance: 10mΩ; Insulation Resistance: 1000MΩ; Rated Current: 9A; Working Voltage: 600VAC; ComponentLink1Description: Website Link; ComponentLink1URL: https://www.we-online.com/redexpert/article/649003127222?ad; ComponentLink2Description: Datasheet Link; ComponentLink2URL: https://www.we-online.com/redexpert/spec/649003127222?ad; Manufacturer Part Number: 649003127222; Category: Wire-to-Board Connectors; Match Code: WR-MPC4; Mount: Through Hole; Operating Temperature Max: 105°C; Operating Temperature Min: -40°C; Packaging: Tray; Gender: Male; Number of Pins: 3; Number of Rows: 1; Orientation: Right Angled; Pitch: 4.2mm
footprint 649003127222
pins: 1, 2, 3

## 649004121732
designator P?  (value not drawn)
WR-MPC4 THT Male Vertical Header with Mounting Pegs, pitch 4.2mm, 4p; Manufacturer: Wurth Elektronik; Contact Resistance: 10mΩ; Insulation Resistance: 1000MΩ; Rated Current: 9A; Working Voltage: 600VAC; ComponentLink1Description: Website Link; ComponentLink1URL: https://www.we-online.com/redexpert/article/649004121732?ad; ComponentLink2Description: Datasheet Link; ComponentLink2URL: https://www.we-online.com/redexpert/spec/649004121732?ad; Manufacturer Part Number: 649004121732; Category: Wire-to-Board Connectors; Match Code: WR-MPC4; Mount: Through Hole; Operating Temperature Max: 105°C; Operating Temperature Min: -40°C; Packaging: Tray; Gender: Male; Number of Pins: 4; Number of Rows: 1; Orientation: Vertical; Pitch: 4.2mm
footprint 649004121732
pins: 1, 2, 3, 4

## 649004127222
designator P?  (value not drawn)
WR-MPC4 THT Male Right Angled Header with Mounting Pegs, pitch 4.2mm, 4p; Manufacturer: Wurth Elektronik; Contact Resistance: 10mΩ; Insulation Resistance: 1000MΩ; Rated Current: 8A; Working Voltage: 600VAC; ComponentLink1Description: Website Link; ComponentLink1URL: https://www.we-online.com/redexpert/article/649004127222?ad; ComponentLink2Description: Datasheet Link; ComponentLink2URL: https://www.we-online.com/redexpert/spec/649004127222?ad; Manufacturer Part Number: 649004127222; Category: Wire-to-Board Connectors; Match Code: WR-MPC4; Mount: Through Hole; Operating Temperature Max: 105°C; Operating Temperature Min: -40°C; Packaging: Tray; Gender: Male; Number of Pins: 4; Number of Rows: 1; Orientation: Right Angled; Pitch: 4.2mm
footprint 649004127222
pins: 1, 2, 3, 4

## 649004221732
designator P?  (value not drawn)
WR-MPC4 THT Male Vertical Header with Mounting Pegs, pitch 4.2mm, 4p; Manufacturer: Wurth Elektronik; Contact Resistance: 10mΩ; Insulation Resistance: 1000MΩ; Rated Current: 8A; Working Voltage: 600VAC; ComponentLink1Description: Website Link; ComponentLink1URL: https://www.we-online.com/redexpert/article/649004221732?ad; ComponentLink2Description: Datasheet Link; ComponentLink2URL: https://www.we-online.com/redexpert/spec/649004221732?ad; Manufacturer Part Number: 649004221732; Category: Wire-to-Board Connectors; Match Code: WR-MPC4; Mount: Through Hole; Operating Temperature Max: 105°C; Operating Temperature Min: -40°C; Packaging: Tray; Gender: Male; Number of Pins: 4; Number of Rows: 2; Orientation: Vertical; Pitch: 4.2mm
footprint 649004221732
pins: 1, 2, 3, 4

## 649004227222
designator P?  (value not drawn)
WR-MPC4 THT Male Right Angled Header with Mounting Pegs, pitch 4.2mm, 4p; Manufacturer: Wurth Elektronik; Contact Resistance: 10mΩ; Insulation Resistance: 1000MΩ; Rated Current: 8A; Working Voltage: 600VAC; ComponentLink1Description: Website Link; ComponentLink1URL: https://www.we-online.com/redexpert/article/649004227222?ad; ComponentLink2Description: Datasheet Link; ComponentLink2URL: https://www.we-online.com/redexpert/spec/649004227222?ad; Manufacturer Part Number: 649004227222; Category: Wire-to-Board Connectors; Match Code: WR-MPC4; Mount: Through Hole; Operating Temperature Max: 105°C; Operating Temperature Min: -40°C; Packaging: Tray; Gender: Male; Number of Pins: 4; Number of Rows: 2; Orientation: Right Angled; Pitch: 4.2mm
footprint 649004227222
pins: 1, 2, 3, 4

## 649005121732
designator P?  (value not drawn)
WR-MPC4 THT Male Vertical Header with Mounting Pegs, pitch 4.2mm, 5p; Manufacturer: Wurth Elektronik; Contact Resistance: 10mΩ; Insulation Resistance: 1000MΩ; Rated Current: 9A; Working Voltage: 600VAC; ComponentLink1Description: Website Link; ComponentLink1URL: https://www.we-online.com/redexpert/article/649005121732?ad; ComponentLink2Description: Datasheet Link; ComponentLink2URL: https://www.we-online.com/redexpert/spec/649005121732?ad; Manufacturer Part Number: 649005121732; Category: Wire-to-Board Connectors; Match Code: WR-MPC4; Mount: Through Hole; Operating Temperature Max: 105°C; Operating Temperature Min: -40°C; Packaging: Tray; Gender: Male; Number of Pins: 5; Number of Rows: 1; Orientation: Vertical; Pitch: 4.2mm
footprint 649005121732
pins: 1, 2, 3, 4, 5

## 649005127222
designator P?  (value not drawn)
WR-MPC4 THT Male Right Angled Header with Mounting Pegs, pitch 4.2mm, 5p; Manufacturer: Wurth Elektronik; Contact Resistance: 10mΩ; Insulation Resistance: 1000MΩ; Rated Current: 8A; Working Voltage: 600VAC; ComponentLink1Description: Website Link; ComponentLink1URL: https://www.we-online.com/redexpert/article/649005127222?ad; ComponentLink2Description: Datasheet Link; ComponentLink2URL: https://www.we-online.com/redexpert/spec/649005127222?ad; Manufacturer Part Number: 649005127222; Category: Wire-to-Board Connectors; Match Code: WR-MPC4; Mount: Through Hole; Operating Temperature Max: 105°C; Operating Temperature Min: -40°C; Packaging: Tray; Gender: Male; Number of Pins: 5; Number of Rows: 1; Orientation: Right Angled; Pitch: 4.2mm
footprint 649005127222
pins: 1, 2, 3, 4, 5